# EAGLE library part MAX17830 (library maxim)
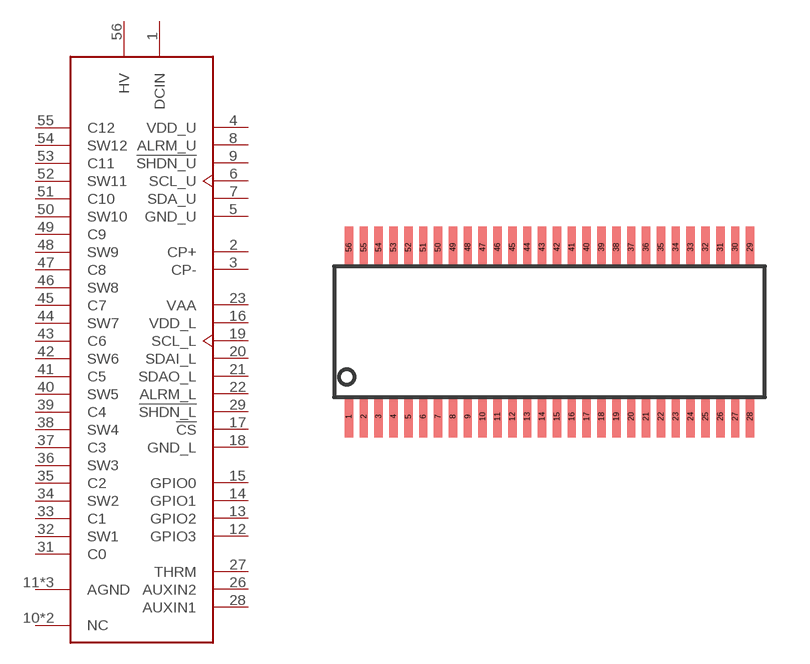
[diagram p2: symbol with the pads of TSSOP56; footprint TSSOP56]

Designator prefix -

## MAX17830  [TSSOP56]
1  DCIN  pwr
2  CP+  pas
3  CP-  pas
4  VDD_U  pwr
5  GND_U  sup
6  SCL_U  out
7  SDA_U
8  ALRM_U  in
9  !SHDN_U  out
10  NC  nc
11  AGND  sup
12  GPIO3
13  GPIO2
14  GPIO1
15  GPIO0
16  VDD_L  pwr
17  !CS  in
18  GND_L  sup
19  SCL_L  in
20  SDAI_L
21  SDAO_L
22  ALRM_L  out
23  VAA  pwr
24  AGND  sup
25  NC  nc
26  AUXIN2  in
27  THRM  out
28  AUXIN1  in
29  !SHDN_L  in
30  AGND  sup
31  C0  in
32  SW1  out
33  C1  in
34  SW2  out
35  C2  in
36  SW3  out
37  C3  in
38  SW4  out
39  C4  in
40  SW5  out
41  C5  in
42  SW6  out
43  C6  in
44  SW7  out
45  C7  in
46  SW8  out
47  C8  in
48  SW9  out
49  C9  in
50  SW10  out
51  C10  in
52  SW11  out
53  C11  in
54  SW12  out
55  C12  in
56  HV  pas

## Footprint TSSOP56 (pad centres in mm)
smd 0.28 x 1.4: 1 -7,-2.85; 2 -6.5,-2.85; 3 -6,-2.85; 4 -5.5,-2.85; 5 -5,-2.85; 6 -4.5,-2.85; 7 -4,-2.85; 8 -3.5,-2.85; 9 -3,-2.85; 10 -2.5,-2.85; 11 -2,-2.85; 12 -1.5,-2.85; 13 -1,-2.85; 14 -0.5,-2.85; 15 0,-2.85; 16 0.5,-2.85; 17 1,-2.85; 18 1.5,-2.85; 19 2,-2.85; 20 2.5,-2.85; 21 3,-2.85; 22 3.5,-2.85; 23 4,-2.85; 24 4.5,-2.85; 25 5,-2.85; 26 5.5,-2.85; 27 6,-2.85; 28 6.5,-2.85; 29 6.5,2.85; 30 6,2.85; 31 5.5,2.85; 32 5,2.85; 33 4.5,2.85; 34 4,2.85; 35 3.5,2.85; 36 3,2.85; 37 2.5,2.85; 38 2,2.85; 39 1.5,2.85; 40 1,2.85; 41 0.5,2.85; 42 0,2.85; 43 -0.5,2.85; 44 -1,2.85; 45 -1.5,2.85; 46 -2,2.85; 47 -2.5,2.85; 48 -3,2.85; 49 -3.5,2.85; 50 -4,2.85; 51 -4.5,2.85; 52 -5,2.85; 53 -5.5,2.85; 54 -6,2.85; 55 -6.5,2.85; 56 -7,2.85